# EAGLE library part PRO_MINI (library TheMakerMCUs)
Arduino Pro Mini v10
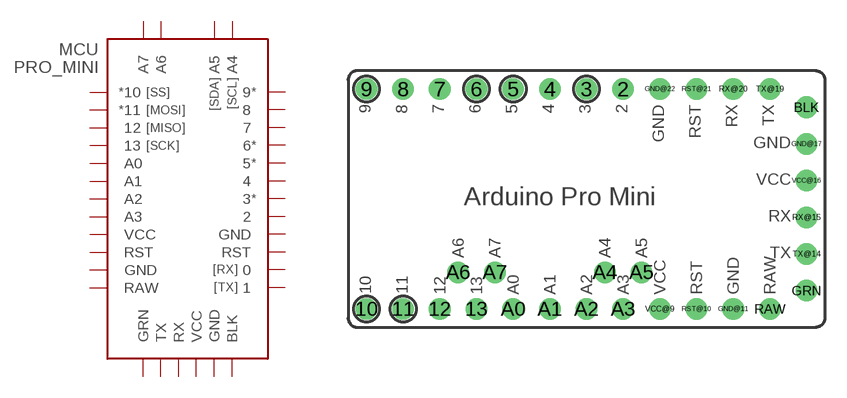
[diagram p1: symbol with the pads of PROMINI; footprint PROMINI]

Designator prefix MCU

## PRO_MINI  [PROMINI]
2  2
3  3
4  4
5  5
6  6
7  7
8  8
9  9
10  10
11  11
12  12
13  13
A0  A0
A1  A1
A2  A2
A3  A3
A4  A4
A5  A5
A6  A6
A7  A7
BLK  BLK
GND@11  GND
GND@17  GND
GND@22  GND
GRN  GRN
RAW  RAW
RST@10  RST
RST@21  RST
RX@15  RX
RX@20  0
TX@14  TX
TX@19  1
VCC@9  VCC
VCC@16  VCC

## Footprint PROMINI (pad centres in mm)
drill 0.85 pad 1.5 round: 2 2.54,7.62; 3 0,7.62; 4 -2.54,7.62; 5 -5.08,7.62; 6 -7.62,7.62; 7 -10.16,7.62; 8 -12.7,7.62; 9 -15.24,7.62; 10 -15.24,-7.62; 11 -12.7,-7.62; 12 -10.16,-7.62; 13 -7.62,-7.62; A0 -5.08,-7.62; A1 -2.54,-7.62; A2 0,-7.62; A3 2.54,-7.62; A4 1.27,-5.08; A5 3.81,-5.08; A6 -8.89,-5.08; A7 -6.35,-5.08; BLK 15.24,6.35; GND@11 10.16,-7.62; GND@17 15.24,3.81; GND@22 5.08,7.62; GRN 15.24,-6.35; RAW 12.7,-7.62; RST@10 7.62,-7.62; RST@21 7.62,7.62; RX@15 15.24,-1.27; RX@20 10.16,7.62; TX@14 15.24,-3.81; TX@19 12.7,7.62; VCC@9 5.08,-7.62; VCC@16 15.24,1.27